# Altium footprint library CapPol_Al_EEE-2AA330P.PcbLib: 1 footprints
Each footprint in its own frame and in the unit in brackets; x right, y up, seen from the top. Pads: shape width x height; smd on the part's side, far side on the other; paste and mask are expansions set on the pad; w line width, h text height; cw(c..) or ccw(c..) is an arc to the next point about the centre after c.
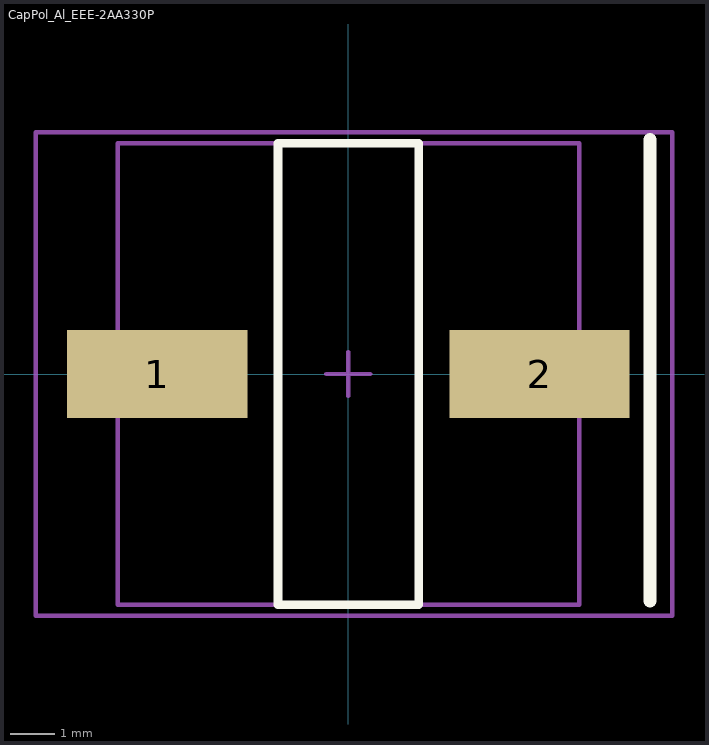
[diagram p0: the footprint, top view; thin cyan lines are the x and y axes]

## CapPol_Al_EEE-2AA330P [mm]
height 10.5
pads (2):
  rect 4.1x2 smd: 1(-4.35,0) 2(4.35,0)
Top Overlay:
  lines w0.2: -1.6,-5.25 -1.6,5.25 1.6,5.25 1.6,-5.25 -1.6,-5.25
  lines w0.3: 6.858,-5.166 6.858,5.334
Mechanical 13:
  lines w0.1: -5.25,-5.25 -5.25,5.25 5.25,5.25 5.25,-5.25 -5.25,-5.25
Mechanical 15:
  lines w0.1: -0.5,0 0.5,0 ; 0,-0.5 0,0.5 ; -7.112,-5.5 -7.112,5.5 7.366,5.5 7.366,-5.5 -7.112,-5.5
3D body: height 10.5, standoff 0, extent -5.25,-5.25 5.25,5.25